# EAGLE library part BU33UV7NUX-E2 (library IC)
IC REG BOOST 3.3V 500MA 10VSON Manufacturer's datasheet <https://fscdn.rohm.com/en/products/databook/datasheet/ic/power/switching_regulator/bu33uv7nux-e.pdf>
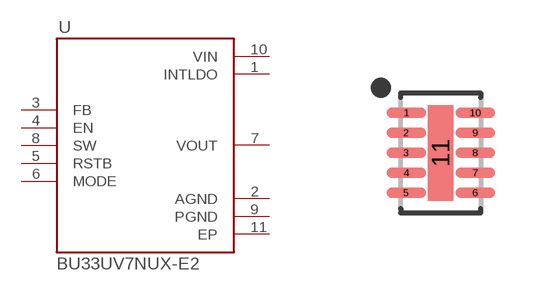
[diagram p49: symbol with the pads of VSON-10; footprint VSON-10]

Designator prefix U

## BU33UV7NUX-E2 (CREATED_BY: PCBLayout.com; DIGIKEY_PARTNO: BU33UV7NUX-E2DKR-ND; MANUFACTURER: Rohm Semiconductor; MPN: BU33UV7NUX-E2; PACKAGE: VSON-10)  [VSON-10]
1  INTLDO  pwr
2  AGND  pwr
3  FB  in
4  EN  in
5  RSTB  in
6  MODE  in
7  VOUT  out
8  SW  in
9  PGND  pwr
10  VIN  pwr
11  EP  pwr

## Footprint VSON-10 (pad centres in mm)
10-SON, 0.50 mm pitch, 3.00 X 2.00 X 1.00 mm body, 2.25 X 0.65 mm thermal pad 10-pin SON package with 0.50 mm pitch with body size 3.00 X 2.00 X 1.00 mm and thermal pad size 2.25 X 0.65 mm
smd 0.987 x 0.264: 1 -0.862,1; 2 -0.862,0.5; 3 -0.862,0; 4 -0.862,-0.5; 5 -0.862,-1; 6 0.862,-1; 7 0.862,-0.5; 8 0.862,0; 9 0.862,0.5; 10 0.862,1
smd 0.64 x 2.39: 11 0,0